# Altium footprint library Demo_BIT.PcbLib: 58 footprints (part 1 of 4)
Each footprint in its own frame and in the unit in brackets; x right, y up, seen from the top. Pads: shape width x height; smd on the part's side, far side on the other; paste and mask are expansions set on the pad; w line width, h text height; cw(c..) or ccw(c..) is an arc to the next point about the centre after c.
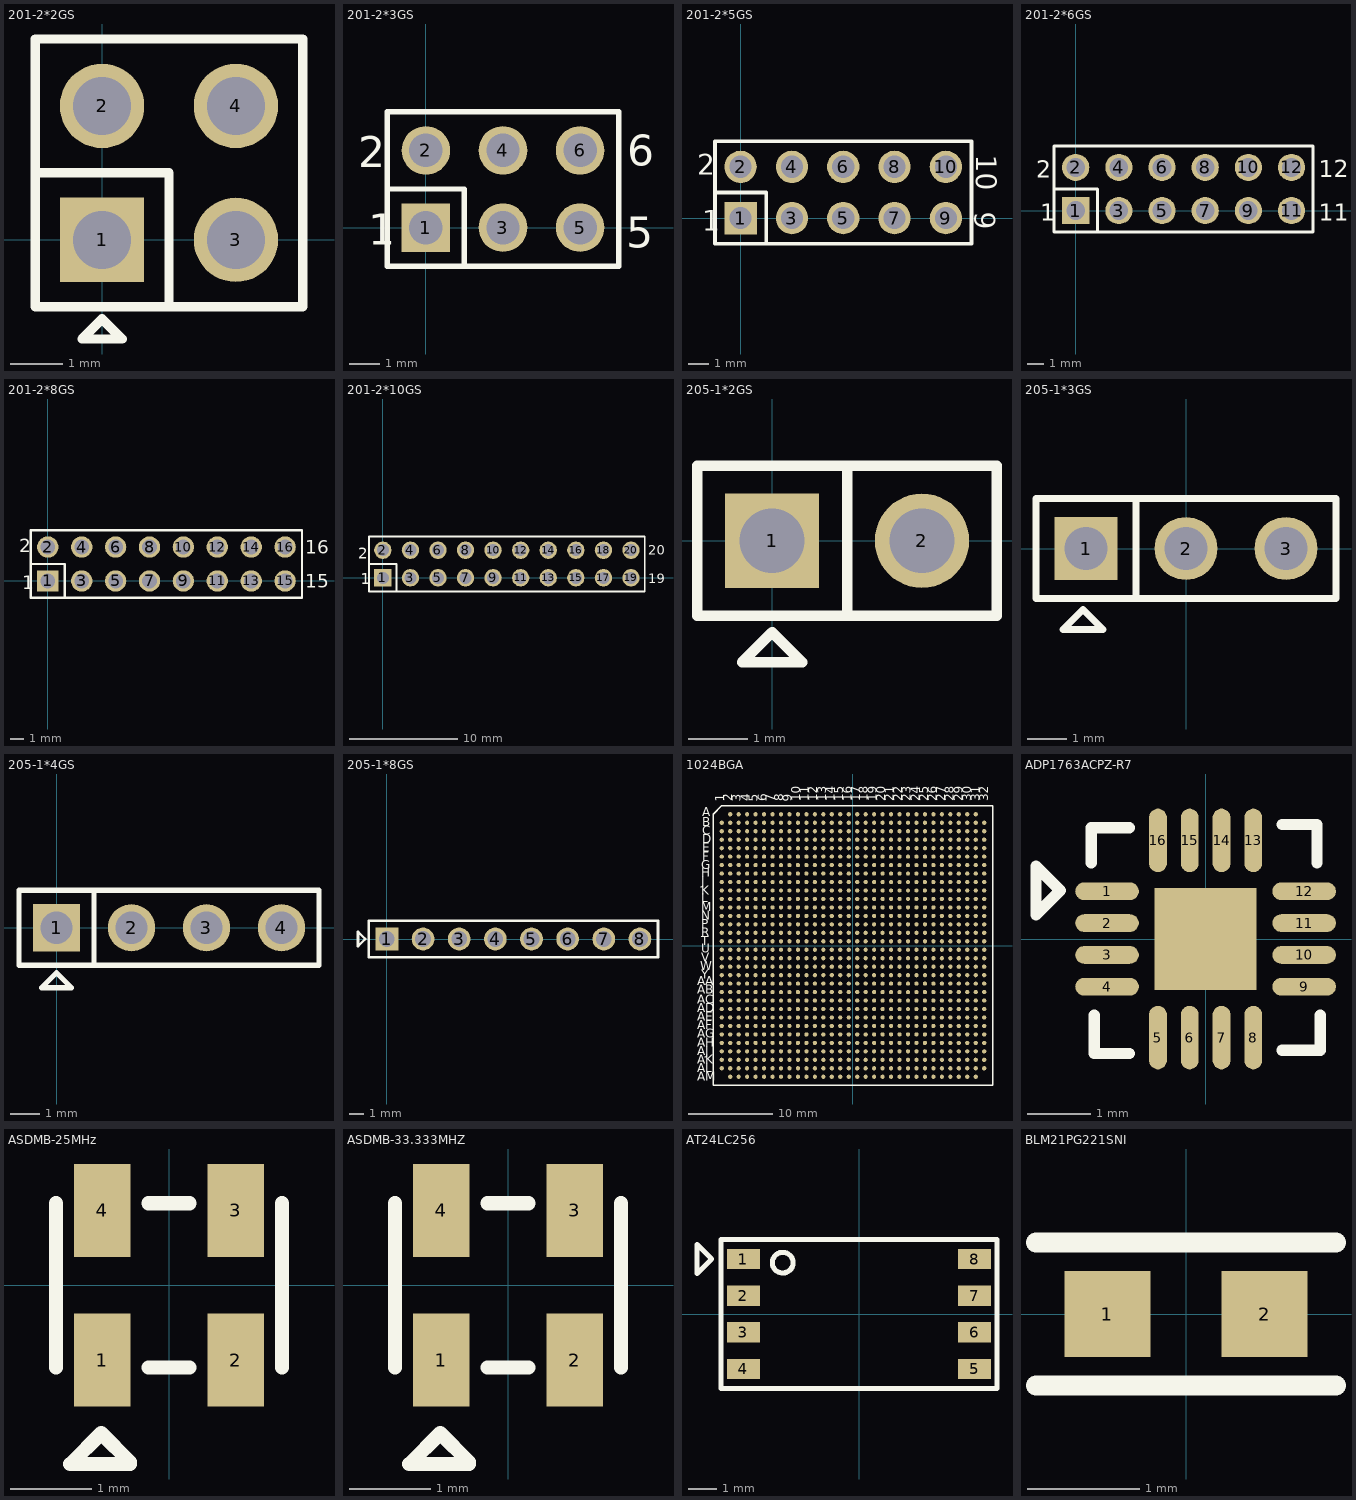
[diagram p0: the footprints below, top view; thin cyan lines are the x and y axes]

## 201-2*2GS [mm]
pads (4):
  rect 1.6x1.6 hole 1.1: 1(0,0)
  round 1.6 hole 1.1: 2(0,2.54) 3(2.54,0) 4(2.54,2.54)
Top Overlay:
  lines w0.178: -1.27,1.27 1.27,1.27 1.27,-1.27 ; -1.27,-1.27 3.81,-1.27 3.81,3.81 -1.27,3.81 -1.27,-1.27 ; -0.381,-1.88 0.381,-1.88 0,-1.499 -0.381,-1.88

## 201-2*3GS [mm]
pads (6):
  rect 1.6x1.6 hole 1.1: 1(0,0)
  round 1.6 hole 1.1: 2(0,2.54) 3(2.54,0) 4(2.54,2.54) 5(5.08,0) 6(5.08,2.54)
Top Overlay:
  lines w0.178: -1.27,1.27 1.27,1.27 1.27,-1.27 ; -1.27,-1.27 -1.27,3.81 6.35,3.81 6.35,-1.27 -1.27,-1.27
  text "6" at 6.629,2.032 h1.02
  text "5" at 6.604,-0.66 h1.02
  text "2" at -2.235,1.981 h1.02
  text "1" at -1.905,-0.559 h1.02

## 201-2*5GS [mm]
pads (10):
  rect 1.6x1.6 hole 1.1: 1(0,0)
  round 1.6 hole 1.1: 2(0,2.54) 3(2.54,0) 4(2.54,2.54) 5(5.08,0) 6(5.08,2.54) 7(7.62,0) 8(7.62,2.54) 9(10.16,0) 10(10.16,2.54)
Top Overlay:
  lines w0.178: -1.27,1.27 1.27,1.27 1.27,-1.27 ; -1.27,-1.27 11.43,-1.27 11.43,3.81 -1.27,3.81 -1.27,-1.27
  text "9" at 11.586,0.323 h1.02
  text "10" at 11.675,3.137 h1.02
  text "1" at -1.905,-0.635 h1.02
  text "2" at -2.159,2.159 h1.02

## 201-2*6GS [mm]
pads (12):
  rect 1.6x1.6 hole 1.1: 1(0,0)
  round 1.6 hole 1.1: 2(0,2.54) 3(2.54,0) 4(2.54,2.54) 5(5.08,0) 6(5.08,2.54) 7(7.62,0) 8(7.62,2.54) 9(10.16,0) 10(10.16,2.54) 11(12.7,0) 12(12.7,2.54)
Top Overlay:
  lines w0.178: -1.27,1.27 1.27,1.27 1.27,-1.27 ; -1.27,-1.27 13.97,-1.27 13.97,3.81 -1.27,3.81 -1.27,-1.27
  text "11" at 14.3,-0.584 h1.02
  text "12" at 14.3,1.956 h1.02
  text "1" at -2.083,-0.61 h1.02
  text "2" at -2.337,1.93 h1.02

## 201-2*8GS [mm]
height 4.1
pads (16):
  rect 1.6x1.6 hole 1.1: 1(0,0)
  round 1.6 hole 1.1: 2(0,2.54) 3(2.54,0) 4(2.54,2.54) 5(5.08,0) 6(5.08,2.54) 7(7.62,0) 8(7.62,2.54) 9(10.16,0) 10(10.16,2.54) 11(12.7,0) 12(12.7,2.54) 13(15.24,0) 14(15.24,2.54) 15(17.78,0) 16(17.78,2.54)
Top Overlay:
  lines w0.178: -1.27,1.27 1.27,1.27 1.27,-1.27 ; -1.27,-1.27 -1.27,3.81 19.05,3.81 19.05,-1.27 -1.27,-1.27
  text "2" at -2.159,2.159 h1.02
  text "1" at -1.905,-0.635 h1.02
  text "16" at 19.304,2.032 h1.02
  text "15" at 19.304,-0.508 h1.02

## 201-2*10GS [mm]
pads (20):
  rect 1.6x1.6 hole 1.1: 1(0,0)
  round 1.6 hole 1.1: 2(0,2.54) 3(2.54,0) 4(2.54,2.54) 5(5.08,0) 6(5.08,2.54) 7(7.62,0) 8(7.62,2.54) 9(10.16,0) 10(10.16,2.54) 11(12.7,0) 12(12.7,2.54) 13(15.24,0) 14(15.24,2.54) 15(17.78,0) 16(17.78,2.54) 17(20.32,0) 18(20.32,2.54) 19(22.86,0) 20(22.86,2.54)
Top Overlay:
  lines w0.178: -1.27,1.27 1.27,1.27 1.27,-1.27 ; -1.27,-1.27 -1.27,3.81 24.13,3.81 24.13,-1.27 -1.27,-1.27
  text "20" at 24.435,2.108 h0.89
  text "19" at 24.46,-0.483 h0.89
  text "2" at -2.286,1.753 h1.02
  text "1" at -2.032,-0.61 h1.02

## 205-1*2GS [mm]
pads (2):
  rect 1.6x1.6 hole 1.1: 1(0,0)
  round 1.6 hole 1.1: 2(2.54,0)
Top Overlay:
  lines w0.178: 1.27,-1.27 1.27,1.27 ; -1.27,-1.27 3.81,-1.27 3.81,1.27 -1.27,1.27 -1.27,-1.27 ; -0.508,-2.057 0,-1.549 0.508,-2.057 -0.508,-2.057

## 205-1*3GS [mm]
pads (3):
  rect 1.6x1.6 hole 1.1: 1(-2.54,0)
  round 1.6 hole 1.1: 2(0,0) 3(2.54,0)
Top Overlay:
  lines w0.178: -1.27,-1.27 -1.27,1.27 ; -3.81,-1.27 3.81,-1.27 3.81,1.27 -3.81,1.27 -3.81,-1.27 ; -3.124,-2.057 -2.616,-1.549 -2.108,-2.057 -3.124,-2.057

## 205-1*4GS [mm]
pads (4):
  rect 1.6x1.6 hole 1.1: 1(0,0)
  round 1.6 hole 1.1: 2(2.54,0) 3(5.08,0) 4(7.62,0)
Top Overlay:
  lines w0.178: 1.27,-1.27 1.27,1.27 ; -1.27,-1.27 -1.27,1.27 8.89,1.27 8.89,-1.27 -1.27,-1.27 ; -0.508,-2.032 0,-1.524 0.508,-2.032 -0.508,-2.032

## 205-1*8GS [mm]
pads (8):
  rect 1.6x1.6 hole 1.1: 1(0,0)
  round 1.6 hole 1.1: 2(2.54,0) 3(5.08,0) 4(7.62,0) 5(10.16,0) 6(12.7,0) 7(15.24,0) 8(17.78,0)
Top Overlay:
  lines w0.178: -2.032,-0.508 -1.524,0 -2.032,0.508 -2.032,-0.508 ; -1.27,-1.27 19.05,-1.27 19.05,1.27 -1.27,1.27 -1.27,-1.27

## 1024BGA [mm]
pads (1020):
  round 0.5 smd: A2(-14.5,15.5) A3(-13.5,15.5) A4(-12.5,15.5) A5(-11.5,15.5) A6(-10.5,15.5) A7(-9.5,15.5) A8(-8.5,15.5) A9(-7.5,15.5) A10(-6.5,15.5) A11(-5.5,15.5) A12(-4.5,15.5) A13(-3.5,15.5) A14(-2.5,15.5) A15(-1.5,15.5) A16(-0.5,15.5) A17(0.5,15.5) A18(1.5,15.5) A19(2.5,15.5) A20(3.5,15.5) A21(4.5,15.5) A22(5.5,15.5) A23(6.5,15.5) A24(7.5,15.5) A25(8.5,15.5) A26(9.5,15.5) A27(10.5,15.5) A28(11.5,15.5) A29(12.5,15.5) A30(13.5,15.5) A31(14.5,15.5) AA1(-15.5,-4.5) AA2(-14.5,-4.5) AA3(-13.5,-4.5) AA4(-12.5,-4.5) AA5(-11.5,-4.5) AA6(-10.5,-4.5) AA7(-9.5,-4.5) AA8(-8.5,-4.5) AA9(-7.5,-4.5) AA10(-6.5,-4.5) AA11(-5.5,-4.5) AA12(-4.5,-4.5) AA13(-3.5,-4.5) AA14(-2.5,-4.5) AA15(-1.5,-4.5) AA16(-0.5,-4.5) AA17(0.5,-4.5) AA18(1.5,-4.5) AA19(2.5,-4.5) AA20(3.5,-4.5) AA21(4.5,-4.5) AA22(5.5,-4.5) AA23(6.5,-4.5) AA24(7.5,-4.5) AA25(8.5,-4.5) AA26(9.5,-4.5) AA27(10.5,-4.5) AA28(11.5,-4.5) AA29(12.5,-4.5) AA30(13.5,-4.5) AA31(14.5,-4.5) AA32(15.5,-4.5) AB1(-15.5,-5.5) AB2(-14.5,-5.5) AB3(-13.5,-5.5) AB4(-12.5,-5.5) AB5(-11.5,-5.5) AB6(-10.5,-5.5) AB7(-9.5,-5.5) AB8(-8.5,-5.5) AB9(-7.5,-5.5) AB10(-6.5,-5.5) AB11(-5.5,-5.5) AB12(-4.5,-5.5) AB13(-3.5,-5.5) AB14(-2.5,-5.5) AB15(-1.5,-5.5) AB16(-0.5,-5.5) AB17(0.5,-5.5) AB18(1.5,-5.5) AB19(2.5,-5.5) AB20(3.5,-5.5) AB21(4.5,-5.5) AB22(5.5,-5.5) AB23(6.5,-5.5) AB24(7.5,-5.5) AB25(8.5,-5.5) AB26(9.5,-5.5) AB27(10.5,-5.5) AB28(11.5,-5.5) AB29(12.5,-5.5) AB30(13.5,-5.5) AB31(14.5,-5.5) AB32(15.5,-5.5) AC1(-15.5,-6.5) AC2(-14.5,-6.5) AC3(-13.5,-6.5) AC4(-12.5,-6.5) AC5(-11.5,-6.5) AC6(-10.5,-6.5) AC7(-9.5,-6.5) AC8(-8.5,-6.5) AC9(-7.5,-6.5) AC10(-6.5,-6.5) AC11(-5.5,-6.5) AC12(-4.5,-6.5) AC13(-3.5,-6.5) AC14(-2.5,-6.5) AC15(-1.5,-6.5) AC16(-0.5,-6.5) AC17(0.5,-6.5) AC18(1.5,-6.5) AC19(2.5,-6.5) AC20(3.5,-6.5) AC21(4.5,-6.5) AC22(5.5,-6.5) AC23(6.5,-6.5) AC24(7.5,-6.5) AC25(8.5,-6.5) AC26(9.5,-6.5) AC27(10.5,-6.5) AC28(11.5,-6.5) AC29(12.5,-6.5) AC30(13.5,-6.5) AC31(14.5,-6.5) AC32(15.5,-6.5) AD1(-15.5,-7.5) AD2(-14.5,-7.5) AD3(-13.5,-7.5) AD4(-12.5,-7.5) AD5(-11.5,-7.5) AD6(-10.5,-7.5) AD7(-9.5,-7.5) AD8(-8.5,-7.5) AD9(-7.5,-7.5) AD10(-6.5,-7.5) AD11(-5.5,-7.5) AD12(-4.5,-7.5) AD13(-3.5,-7.5) AD14(-2.5,-7.5) AD15(-1.5,-7.5) AD16(-0.5,-7.5) AD17(0.5,-7.5) AD18(1.5,-7.5) AD19(2.5,-7.5) AD20(3.5,-7.5) AD21(4.5,-7.5) AD22(5.5,-7.5) AD23(6.5,-7.5) AD24(7.5,-7.5) AD25(8.5,-7.5) AD26(9.5,-7.5) AD27(10.5,-7.5) AD28(11.5,-7.5) AD29(12.5,-7.5) AD30(13.5,-7.5) AD31(14.5,-7.5) AD32(15.5,-7.5) AE1(-15.5,-8.5) AE2(-14.5,-8.5) AE3(-13.5,-8.5) AE4(-12.5,-8.5) AE5(-11.5,-8.5) AE6(-10.5,-8.5) AE7(-9.5,-8.5) AE8(-8.5,-8.5) AE9(-7.5,-8.5) AE10(-6.5,-8.5) AE11(-5.5,-8.5) AE12(-4.5,-8.5) AE13(-3.5,-8.5) AE14(-2.5,-8.5) AE15(-1.5,-8.5) AE16(-0.5,-8.5) AE17(0.5,-8.5) AE18(1.5,-8.5) AE19(2.5,-8.5) AE20(3.5,-8.5) AE21(4.5,-8.5) AE22(5.5,-8.5) AE23(6.5,-8.5) AE24(7.5,-8.5) AE25(8.5,-8.5) AE26(9.5,-8.5) AE27(10.5,-8.5) AE28(11.5,-8.5) AE29(12.5,-8.5) AE30(13.5,-8.5) AE31(14.5,-8.5) AE32(15.5,-8.5) AF1(-15.5,-9.5) AF2(-14.5,-9.5) AF3(-13.5,-9.5) AF4(-12.5,-9.5) AF5(-11.5,-9.5) AF6(-10.5,-9.5) AF7(-9.5,-9.5) AF8(-8.5,-9.5) AF9(-7.5,-9.5) AF10(-6.5,-9.5) AF11(-5.5,-9.5) AF12(-4.5,-9.5) AF13(-3.5,-9.5) AF14(-2.5,-9.5) AF15(-1.5,-9.5) AF16(-0.5,-9.5) AF17(0.5,-9.5) AF18(1.5,-9.5) AF19(2.5,-9.5) AF20(3.5,-9.5) AF21(4.5,-9.5) AF22(5.5,-9.5) AF23(6.5,-9.5) AF24(7.5,-9.5) AF25(8.5,-9.5) AF26(9.5,-9.5) AF27(10.5,-9.5) AF28(11.5,-9.5) AF29(12.5,-9.5) AF30(13.5,-9.5) AF31(14.5,-9.5) AF32(15.5,-9.5) AG1(-15.5,-10.5) AG2(-14.5,-10.5) AG3(-13.5,-10.5) AG4(-12.5,-10.5) AG5(-11.5,-10.5) AG6(-10.5,-10.5) AG7(-9.5,-10.5) AG8(-8.5,-10.5) AG9(-7.5,-10.5) AG10(-6.5,-10.5) AG11(-5.5,-10.5) AG12(-4.5,-10.5) AG13(-3.5,-10.5) AG14(-2.5,-10.5) AG15(-1.5,-10.5) AG16(-0.5,-10.5) AG17(0.5,-10.5) AG18(1.5,-10.5) AG19(2.5,-10.5) AG20(3.5,-10.5) AG21(4.5,-10.5) AG22(5.5,-10.5) AG23(6.5,-10.5) AG24(7.5,-10.5) AG25(8.5,-10.5) AG26(9.5,-10.5) AG27(10.5,-10.5) AG28(11.5,-10.5) AG29(12.5,-10.5) AG30(13.5,-10.5) AG31(14.5,-10.5) AG32(15.5,-10.5) AH1(-15.5,-11.5) AH2(-14.5,-11.5) AH3(-13.5,-11.5) AH4(-12.5,-11.5) AH5(-11.5,-11.5) AH6(-10.5,-11.5) AH7(-9.5,-11.5) AH8(-8.5,-11.5) AH9(-7.5,-11.5) AH10(-6.5,-11.5) AH11(-5.5,-11.5) AH12(-4.5,-11.5) AH13(-3.5,-11.5) AH14(-2.5,-11.5) AH15(-1.5,-11.5) AH16(-0.5,-11.5) AH17(0.5,-11.5) AH18(1.5,-11.5) AH19(2.5,-11.5) AH20(3.5,-11.5) AH21(4.5,-11.5) AH22(5.5,-11.5) AH23(6.5,-11.5) AH24(7.5,-11.5) AH25(8.5,-11.5) AH26(9.5,-11.5) AH27(10.5,-11.5) AH28(11.5,-11.5) AH29(12.5,-11.5) AH30(13.5,-11.5) AH31(14.5,-11.5) AH32(15.5,-11.5) AJ1(-15.5,-12.5) AJ2(-14.5,-12.5) AJ3(-13.5,-12.5) AJ4(-12.5,-12.5) AJ5(-11.5,-12.5) AJ6(-10.5,-12.5) AJ7(-9.5,-12.5) AJ8(-8.5,-12.5) AJ9(-7.5,-12.5) AJ10(-6.5,-12.5) AJ11(-5.5,-12.5) AJ12(-4.5,-12.5) AJ13(-3.5,-12.5) AJ14(-2.5,-12.5) AJ15(-1.5,-12.5) AJ16(-0.5,-12.5) AJ17(0.5,-12.5) AJ18(1.5,-12.5) AJ19(2.5,-12.5) AJ20(3.5,-12.5) AJ21(4.5,-12.5) AJ22(5.5,-12.5) AJ23(6.5,-12.5) AJ24(7.5,-12.5) AJ25(8.5,-12.5) AJ26(9.5,-12.5) AJ27(10.5,-12.5) AJ28(11.5,-12.5) AJ29(12.5,-12.5) AJ30(13.5,-12.5) AJ31(14.5,-12.5) AJ32(15.5,-12.5) AK1(-15.5,-13.5) AK2(-14.5,-13.5) AK3(-13.5,-13.5) AK4(-12.5,-13.5) AK5(-11.5,-13.5) AK6(-10.5,-13.5) AK7(-9.5,-13.5) AK8(-8.5,-13.5) AK9(-7.5,-13.5) AK10(-6.5,-13.5) AK11(-5.5,-13.5) AK12(-4.5,-13.5) AK13(-3.5,-13.5) AK14(-2.5,-13.5) AK15(-1.5,-13.5) AK16(-0.5,-13.5) AK17(0.5,-13.5) AK18(1.5,-13.5) AK19(2.5,-13.5) AK20(3.5,-13.5) AK21(4.5,-13.5) AK22(5.5,-13.5) AK23(6.5,-13.5) AK24(7.5,-13.5) AK25(8.5,-13.5) AK26(9.5,-13.5) AK27(10.5,-13.5) AK28(11.5,-13.5) AK29(12.5,-13.5) AK30(13.5,-13.5) AK31(14.5,-13.5) AK32(15.5,-13.5) AL1(-15.5,-14.5) AL2(-14.5,-14.5) AL3(-13.5,-14.5) AL4(-12.5,-14.5) AL5(-11.5,-14.5) AL6(-10.5,-14.5) AL7(-9.5,-14.5) AL8(-8.5,-14.5) AL9(-7.5,-14.5) AL10(-6.5,-14.5) AL11(-5.5,-14.5) AL12(-4.5,-14.5) AL13(-3.5,-14.5) AL14(-2.5,-14.5) AL15(-1.5,-14.5) AL16(-0.5,-14.5) AL17(0.5,-14.5) AL18(1.5,-14.5) AL19(2.5,-14.5) AL20(3.5,-14.5) AL21(4.5,-14.5) AL22(5.5,-14.5) AL23(6.5,-14.5) AL24(7.5,-14.5) AL25(8.5,-14.5) AL26(9.5,-14.5) AL27(10.5,-14.5) AL28(11.5,-14.5) AL29(12.5,-14.5) AL30(13.5,-14.5) AL31(14.5,-14.5) AL32(15.5,-14.5) AM2(-14.5,-15.5) AM3(-13.5,-15.5) AM4(-12.5,-15.5) AM5(-11.5,-15.5) AM6(-10.5,-15.5) AM7(-9.5,-15.5) AM8(-8.5,-15.5) AM9(-7.5,-15.5) AM10(-6.5,-15.5) AM11(-5.5,-15.5) AM12(-4.5,-15.5) AM13(-3.5,-15.5) AM14(-2.5,-15.5) AM15(-1.5,-15.5) AM16(-0.5,-15.5) AM17(0.5,-15.5) AM18(1.5,-15.5) AM19(2.5,-15.5) AM20(3.5,-15.5) AM21(4.5,-15.5) AM22(5.5,-15.5) AM23(6.5,-15.5) AM24(7.5,-15.5) AM25(8.5,-15.5) AM26(9.5,-15.5) AM27(10.5,-15.5) AM28(11.5,-15.5) AM29(12.5,-15.5) AM30(13.5,-15.5) AM31(14.5,-15.5) B1(-15.5,14.5) B2(-14.5,14.5) B3(-13.5,14.5) B4(-12.5,14.5) B5(-11.5,14.5) B6(-10.5,14.5) B7(-9.5,14.5) B8(-8.5,14.5) B9(-7.5,14.5) B10(-6.5,14.5) B11(-5.5,14.5) B12(-4.5,14.5) B13(-3.5,14.5) B14(-2.5,14.5) B15(-1.5,14.5) B16(-0.5,14.5) B17(0.5,14.5) B18(1.5,14.5) B19(2.5,14.5) B20(3.5,14.5) B21(4.5,14.5) B22(5.5,14.5) B23(6.5,14.5) B24(7.5,14.5) B25(8.5,14.5) B26(9.5,14.5) B27(10.5,14.5) B28(11.5,14.5) B29(12.5,14.5) B30(13.5,14.5) B31(14.5,14.5) B32(15.5,14.5) C1(-15.5,13.5) C2(-14.5,13.5) C3(-13.5,13.5) C4(-12.5,13.5) C5(-11.5,13.5) C6(-10.5,13.5) C7(-9.5,13.5) C8(-8.5,13.5) C9(-7.5,13.5) C10(-6.5,13.5) C11(-5.5,13.5) C12(-4.5,13.5) C13(-3.5,13.5) C14(-2.5,13.5) C15(-1.5,13.5) C16(-0.5,13.5) C17(0.5,13.5) C18(1.5,13.5) C19(2.5,13.5) C20(3.5,13.5) C21(4.5,13.5) C22(5.5,13.5) C23(6.5,13.5) C24(7.5,13.5) C25(8.5,13.5) C26(9.5,13.5) C27(10.5,13.5) C28(11.5,13.5) C29(12.5,13.5) C30(13.5,13.5) C31(14.5,13.5) C32(15.5,13.5) D1(-15.5,12.5) D2(-14.5,12.5) D3(-13.5,12.5) D4(-12.5,12.5) D5(-11.5,12.5) D6(-10.5,12.5) D7(-9.5,12.5) D8(-8.5,12.5) D9(-7.5,12.5) D10(-6.5,12.5) D11(-5.5,12.5) D12(-4.5,12.5) D13(-3.5,12.5) D14(-2.5,12.5) D15(-1.5,12.5) D16(-0.5,12.5) D17(0.5,12.5) D18(1.5,12.5) D19(2.5,12.5) D20(3.5,12.5) D21(4.5,12.5) D22(5.5,12.5) D23(6.5,12.5) D24(7.5,12.5) D25(8.5,12.5) D26(9.5,12.5) D27(10.5,12.5) D28(11.5,12.5) D29(12.5,12.5) D30(13.5,12.5) D31(14.5,12.5) D32(15.5,12.5) E1(-15.5,11.5) E2(-14.5,11.5) E3(-13.5,11.5) E4(-12.5,11.5) E5(-11.5,11.5) E6(-10.5,11.5) E7(-9.5,11.5) E8(-8.5,11.5) E9(-7.5,11.5) E10(-6.5,11.5) E11(-5.5,11.5) E12(-4.5,11.5) E13(-3.5,11.5) E14(-2.5,11.5) E15(-1.5,11.5) E16(-0.5,11.5) E17(0.5,11.5) E18(1.5,11.5) E19(2.5,11.5) E20(3.5,11.5) E21(4.5,11.5) E22(5.5,11.5) E23(6.5,11.5) E24(7.5,11.5) E25(8.5,11.5) E26(9.5,11.5) E27(10.5,11.5) E28(11.5,11.5) E29(12.5,11.5) E30(13.5,11.5) E31(14.5,11.5) E32(15.5,11.5) F1(-15.5,10.5) F2(-14.5,10.5) F3(-13.5,10.5) F4(-12.5,10.5) F5(-11.5,10.5) F6(-10.5,10.5) F7(-9.5,10.5) F8(-8.5,10.5) F9(-7.5,10.5) F10(-6.5,10.5) F11(-5.5,10.5) F12(-4.5,10.5) F13(-3.5,10.5) F14(-2.5,10.5) F15(-1.5,10.5) F16(-0.5,10.5) F17(0.5,10.5) F18(1.5,10.5) F19(2.5,10.5) F20(3.5,10.5) F21(4.5,10.5) F22(5.5,10.5) F23(6.5,10.5) F24(7.5,10.5) F25(8.5,10.5) F26(9.5,10.5) F27(10.5,10.5) F28(11.5,10.5) F29(12.5,10.5) F30(13.5,10.5) F31(14.5,10.5) F32(15.5,10.5) G1(-15.5,9.5) G2(-14.5,9.5) G3(-13.5,9.5) G4(-12.5,9.5) G5(-11.5,9.5) G6(-10.5,9.5) G7(-9.5,9.5) G8(-8.5,9.5) G9(-7.5,9.5) G10(-6.5,9.5) G11(-5.5,9.5) G12(-4.5,9.5) G13(-3.5,9.5) G14(-2.5,9.5) G15(-1.5,9.5) G16(-0.5,9.5) G17(0.5,9.5) G18(1.5,9.5) G19(2.5,9.5) G20(3.5,9.5) G21(4.5,9.5) G22(5.5,9.5) G23(6.5,9.5) G24(7.5,9.5) G25(8.5,9.5) G26(9.5,9.5) G27(10.5,9.5) G28(11.5,9.5) G29(12.5,9.5) G30(13.5,9.5) G31(14.5,9.5) G32(15.5,9.5) H1(-15.5,8.5) H2(-14.5,8.5) H3(-13.5,8.5) H4(-12.5,8.5) H5(-11.5,8.5) H6(-10.5,8.5) H7(-9.5,8.5) H8(-8.5,8.5) H9(-7.5,8.5) H10(-6.5,8.5) H11(-5.5,8.5) H12(-4.5,8.5) H13(-3.5,8.5) H14(-2.5,8.5) H15(-1.5,8.5) H16(-0.5,8.5) H17(0.5,8.5) H18(1.5,8.5) H19(2.5,8.5) H20(3.5,8.5) H21(4.5,8.5) H22(5.5,8.5) H23(6.5,8.5) H24(7.5,8.5) H25(8.5,8.5) H26(9.5,8.5) H27(10.5,8.5) H28(11.5,8.5) H29(12.5,8.5) H30(13.5,8.5) H31(14.5,8.5) H32(15.5,8.5) J1(-15.5,7.5) J2(-14.5,7.5) J3(-13.5,7.5) J4(-12.5,7.5) J5(-11.5,7.5) J6(-10.5,7.5) J7(-9.5,7.5) J8(-8.5,7.5) J9(-7.5,7.5) J10(-6.5,7.5) J11(-5.5,7.5) J12(-4.5,7.5) J13(-3.5,7.5) J14(-2.5,7.5) J15(-1.5,7.5) J16(-0.5,7.5) J17(0.5,7.5) J18(1.5,7.5) J19(2.5,7.5) J20(3.5,7.5) J21(4.5,7.5) J22(5.5,7.5) J23(6.5,7.5) J24(7.5,7.5) J25(8.5,7.5) J26(9.5,7.5) J27(10.5,7.5) J28(11.5,7.5) J29(12.5,7.5) J30(13.5,7.5) J31(14.5,7.5) J32(15.5,7.5) K1(-15.5,6.5) K2(-14.5,6.5) K3(-13.5,6.5) K4(-12.5,6.5) K5(-11.5,6.5) K6(-10.5,6.5) K7(-9.5,6.5) K8(-8.5,6.5) K9(-7.5,6.5) K10(-6.5,6.5) K11(-5.5,6.5) K12(-4.5,6.5) K13(-3.5,6.5) K14(-2.5,6.5) K15(-1.5,6.5) K16(-0.5,6.5) K17(0.5,6.5) K18(1.5,6.5) K19(2.5,6.5) K20(3.5,6.5) K21(4.5,6.5) K22(5.5,6.5) K23(6.5,6.5) K24(7.5,6.5) K25(8.5,6.5) K26(9.5,6.5) K27(10.5,6.5) K28(11.5,6.5) K29(12.5,6.5) K30(13.5,6.5) K31(14.5,6.5) K32(15.5,6.5) L1(-15.5,5.5) L2(-14.5,5.5) L3(-13.5,5.5) L4(-12.5,5.5) L5(-11.5,5.5) L6(-10.5,5.5) L7(-9.5,5.5) L8(-8.5,5.5) L9(-7.5,5.5) L10(-6.5,5.5) L11(-5.5,5.5) L12(-4.5,5.5) L13(-3.5,5.5) L14(-2.5,5.5) L15(-1.5,5.5) L16(-0.5,5.5) L17(0.5,5.5) L18(1.5,5.5) L19(2.5,5.5) L20(3.5,5.5) L21(4.5,5.5) L22(5.5,5.5) L23(6.5,5.5) L24(7.5,5.5) L25(8.5,5.5) L26(9.5,5.5) L27(10.5,5.5) L28(11.5,5.5) L29(12.5,5.5) L30(13.5,5.5) L31(14.5,5.5) L32(15.5,5.5) M1(-15.5,4.5) M2(-14.5,4.5) M3(-13.5,4.5) M4(-12.5,4.5) M5(-11.5,4.5) M6(-10.5,4.5) M7(-9.5,4.5) M8(-8.5,4.5) M9(-7.5,4.5) M10(-6.5,4.5) M11(-5.5,4.5) M12(-4.5,4.5) M13(-3.5,4.5) M14(-2.5,4.5) M15(-1.5,4.5) M16(-0.5,4.5) M17(0.5,4.5) M18(1.5,4.5) M19(2.5,4.5) M20(3.5,4.5) M21(4.5,4.5) M22(5.5,4.5) M23(6.5,4.5) M24(7.5,4.5) M25(8.5,4.5) M26(9.5,4.5) M27(10.5,4.5) M28(11.5,4.5) M29(12.5,4.5) M30(13.5,4.5) M31(14.5,4.5) M32(15.5,4.5) N1(-15.5,3.5) N2(-14.5,3.5) N3(-13.5,3.5) N4(-12.5,3.5) N5(-11.5,3.5) N6(-10.5,3.5) N7(-9.5,3.5) N8(-8.5,3.5) N9(-7.5,3.5) N10(-6.5,3.5) N11(-5.5,3.5) N12(-4.5,3.5) N13(-3.5,3.5) N14(-2.5,3.5) N15(-1.5,3.5) N16(-0.5,3.5) N17(0.5,3.5) N18(1.5,3.5) N19(2.5,3.5) N20(3.5,3.5) N21(4.5,3.5) N22(5.5,3.5) N23(6.5,3.5) N24(7.5,3.5) N25(8.5,3.5) N26(9.5,3.5) N27(10.5,3.5) N28(11.5,3.5) N29(12.5,3.5) N30(13.5,3.5) N31(14.5,3.5) N32(15.5,3.5) P1(-15.5,2.5) P2(-14.5,2.5) P3(-13.5,2.5) P4(-12.5,2.5) P5(-11.5,2.5) P6(-10.5,2.5) P7(-9.5,2.5) P8(-8.5,2.5) P9(-7.5,2.5) P10(-6.5,2.5) P11(-5.5,2.5) P12(-4.5,2.5) P13(-3.5,2.5) P14(-2.5,2.5) P15(-1.5,2.5) P16(-0.5,2.5) P17(0.5,2.5) P18(1.5,2.5) P19(2.5,2.5) P20(3.5,2.5) P21(4.5,2.5) P22(5.5,2.5) P23(6.5,2.5) P24(7.5,2.5) P25(8.5,2.5) P26(9.5,2.5) P27(10.5,2.5) P28(11.5,2.5) P29(12.5,2.5) P30(13.5,2.5) P31(14.5,2.5) P32(15.5,2.5) R1(-15.5,1.5) R2(-14.5,1.5) R3(-13.5,1.5) R4(-12.5,1.5) R5(-11.5,1.5) R6(-10.5,1.5) R7(-9.5,1.5) R8(-8.5,1.5) R9(-7.5,1.5) R10(-6.5,1.5) R11(-5.5,1.5) R12(-4.5,1.5) R13(-3.5,1.5) R14(-2.5,1.5) R15(-1.5,1.5) R16(-0.5,1.5) R17(0.5,1.5) R18(1.5,1.5) R19(2.5,1.5) R20(3.5,1.5) R21(4.5,1.5) R22(5.5,1.5) R23(6.5,1.5) R24(7.5,1.5) R25(8.5,1.5) R26(9.5,1.5) R27(10.5,1.5) R28(11.5,1.5) R29(12.5,1.5) R30(13.5,1.5) R31(14.5,1.5) R32(15.5,1.5) T1(-15.5,0.5) T2(-14.5,0.5) T3(-13.5,0.5) T4(-12.5,0.5) T5(-11.5,0.5) T6(-10.5,0.5) T7(-9.5,0.5) T8(-8.5,0.5) T9(-7.5,0.5) T10(-6.5,0.5) T11(-5.5,0.5) T12(-4.5,0.5) T13(-3.5,0.5) T14(-2.5,0.5) T15(-1.5,0.5) T16(-0.5,0.5) T17(0.5,0.5) T18(1.5,0.5) T19(2.5,0.5) T20(3.5,0.5) T21(4.5,0.5) T22(5.5,0.5) T23(6.5,0.5) T24(7.5,0.5) T25(8.5,0.5) T26(9.5,0.5) T27(10.5,0.5) T28(11.5,0.5) T29(12.5,0.5) T30(13.5,0.5) T31(14.5,0.5) T32(15.5,0.5) U1(-15.5,-0.5) U2(-14.5,-0.5) U3(-13.5,-0.5) U4(-12.5,-0.5) U5(-11.5,-0.5) U6(-10.5,-0.5) U7(-9.5,-0.5) U8(-8.5,-0.5) U9(-7.5,-0.5) U10(-6.5,-0.5) U11(-5.5,-0.5) U12(-4.5,-0.5) U13(-3.5,-0.5) U14(-2.5,-0.5) U15(-1.5,-0.5) U16(-0.5,-0.5) U17(0.5,-0.5) U18(1.5,-0.5) U19(2.5,-0.5) U20(3.5,-0.5) U21(4.5,-0.5) U22(5.5,-0.5) U23(6.5,-0.5) U24(7.5,-0.5) U25(8.5,-0.5) U26(9.5,-0.5) U27(10.5,-0.5) U28(11.5,-0.5) U29(12.5,-0.5) U30(13.5,-0.5) U31(14.5,-0.5) U32(15.5,-0.5) V1(-15.5,-1.5) V2(-14.5,-1.5) V3(-13.5,-1.5) V4(-12.5,-1.5) V5(-11.5,-1.5) V6(-10.5,-1.5) V7(-9.5,-1.5) V8(-8.5,-1.5) V9(-7.5,-1.5) V10(-6.5,-1.5) V11(-5.5,-1.5) V12(-4.5,-1.5) V13(-3.5,-1.5) V14(-2.5,-1.5) V15(-1.5,-1.5) V16(-0.5,-1.5) V17(0.5,-1.5) V18(1.5,-1.5) V19(2.5,-1.5) V20(3.5,-1.5) V21(4.5,-1.5) V22(5.5,-1.5) V23(6.5,-1.5) V24(7.5,-1.5) V25(8.5,-1.5) V26(9.5,-1.5) V27(10.5,-1.5) V28(11.5,-1.5) V29(12.5,-1.5) V30(13.5,-1.5) V31(14.5,-1.5) V32(15.5,-1.5) W1(-15.5,-2.5) W2(-14.5,-2.5) W3(-13.5,-2.5) W4(-12.5,-2.5) W5(-11.5,-2.5) W6(-10.5,-2.5) W7(-9.5,-2.5) W8(-8.5,-2.5) W9(-7.5,-2.5) W10(-6.5,-2.5) W11(-5.5,-2.5) W12(-4.5,-2.5) W13(-3.5,-2.5) W14(-2.5,-2.5) W15(-1.5,-2.5) W16(-0.5,-2.5) W17(0.5,-2.5) W18(1.5,-2.5) W19(2.5,-2.5) W20(3.5,-2.5) W21(4.5,-2.5) W22(5.5,-2.5) W23(6.5,-2.5) W24(7.5,-2.5) W25(8.5,-2.5) W26(9.5,-2.5) W27(10.5,-2.5) W28(11.5,-2.5) W29(12.5,-2.5) W30(13.5,-2.5) W31(14.5,-2.5) W32(15.5,-2.5) Y1(-15.5,-3.5) Y2(-14.5,-3.5) Y3(-13.5,-3.5) Y4(-12.5,-3.5) Y5(-11.5,-3.5) Y6(-10.5,-3.5) Y7(-9.5,-3.5) Y8(-8.5,-3.5) Y9(-7.5,-3.5) Y10(-6.5,-3.5) Y11(-5.5,-3.5) Y12(-4.5,-3.5) Y13(-3.5,-3.5) Y14(-2.5,-3.5) Y15(-1.5,-3.5) Y16(-0.5,-3.5) Y17(0.5,-3.5) Y18(1.5,-3.5) Y19(2.5,-3.5) Y20(3.5,-3.5) Y21(4.5,-3.5) Y22(5.5,-3.5) Y23(6.5,-3.5) Y24(7.5,-3.5) Y25(8.5,-3.5) Y26(9.5,-3.5) Y27(10.5,-3.5) Y28(11.5,-3.5) Y29(12.5,-3.5) Y30(13.5,-3.5) Y31(14.5,-3.5) Y32(15.5,-3.5)
Top Overlay:
  lines w0.178: -16.5,-16.5 16.5,-16.5 16.5,16.5 -15.516,16.5 -16.5,15.516 -16.5,-16.5
  text "31" at 14.98,17.024 h1.02
  text "32" at 15.996,17.024 h1.02
  text "29" at 12.948,17.024 h1.02
  text "30" at 13.964,17.024 h1.02
  text "27" at 10.916,17.024 h1.02
  text "28" at 11.932,17.024 h1.02
  text "16" at -0.133,17.024 h1.02
  text "17" at 0.883,17.024 h1.02
  text "26" at 9.9,17.024 h1.02
  text "24" at 7.868,17.024 h1.02
  text "25" at 8.884,17.024 h1.02
  text "22" at 5.836,17.024 h1.02
  text "23" at 6.852,17.024 h1.02
  text "20" at 3.804,17.024 h1.02
  text "21" at 4.82,17.024 h1.02
  text "18" at 1.772,17.024 h1.02
  text "19" at 2.788,17.024 h1.02
  text "4" at -12.198,17.024 h1.02
  text "3" at -13.231,17.009 h1.02
  text "6" at -10.166,17.024 h1.02
  text "5" at -11.231,17.009 h1.02
  text "8" at -8.261,17.024 h1.02
  text "7" at -9.231,17.009 h1.02
  text "10" at -6.229,17.024 h1.02
  text "12" at -4.197,17.024 h1.02
  text "11" at -5.213,17.024 h1.02
  text "14" at -2.165,17.024 h1.02
  text "13" at -3.181,17.024 h1.02
  text "15" at -1.149,17.024 h1.02
  text "2" at -14.23,17.024 h1.02
  text "1" at -15.231,17.009 h1.02
  text "R" at -17.913,1.022 h1.02
  text "B" at -17.786,14.103 h1.02
  text "A" at -17.786,15.246 h1.02
  text "C" at -17.786,13.087 h1.02
  text "D" at -17.786,12.071 h1.02
  text "E" at -17.786,11.055 h1.02
  text "F" at -17.786,10.039 h1.02
  text "G" at -17.913,9.023 h1.02
  text "H" at -17.913,8.134 h1.02
  text "J" at -17.913,7.118 h1.02
  text "K" at -17.913,5.975 h1.02
  text "L" at -17.913,5.086 h1.02
  text "M" at -17.913,4.07 h1.02
  text "P" at -17.913,2.038 h1.02
  text "U" at -17.913,-0.883 h1.02
  text "T" at -17.913,0.006 h1.02
  text "V" at -17.913,-1.899 h1.02
  text "W" at -18.04,-2.915 h1.02
  text "Y" at -17.913,-3.931 h1.02
  text "AB" at -18.421,-5.709 h1.02
  text "AC" at -18.421,-6.852 h1.02
  text "AD" at -18.421,-7.868 h1.02
  text "AE" at -18.421,-8.884 h1.02
  text "AF" at -18.421,-9.9 h1.02
  text "AH" at -18.421,-11.932 h1.02
  text "AG" at -18.421,-10.916 h1.02
  text "AK" at -18.421,-13.964 h1.02
  text "AJ" at -18.421,-12.948 h1.02
  text "AM" at -18.421,-15.996 h1.02
  text "AL" at -18.421,-14.98 h1.02
  text "N" at -17.913,3.054 h1.02
  text "AA" at -18.421,-4.693 h1.02
  text "9" at -7.231,17.009 h1.02

## ADP1763ACPZ-R7 [mm]
pads (17):
  oval 1x0.28 smd: 1(-1.55,0.75) 2(-1.55,0.25) 3(-1.55,-0.25) 4(-1.55,-0.75) 9(1.55,-0.75) 10(1.55,-0.25) 11(1.55,0.25) 12(1.55,0.75)
  oval 0.28x1 smd: 5(-0.75,-1.55) 6(-0.25,-1.55) 7(0.25,-1.55) 8(0.75,-1.55) 13(0.75,1.55) 14(0.25,1.55) 15(-0.25,1.55) 16(-0.75,1.55)
  rect 1.6x1.6 smd: ""(0,0)
Top Overlay:
  lines w0.178: -1.8,1.2 -1.8,1.75 -1.2,1.75 ; -1.75,-1.2 -1.75,-1.8 -1.2,-1.8 ; 1.2,-1.75 1.8,-1.75 1.8,-1.2 ; 1.2,1.8 1.75,1.8 1.75,1.2 ; -2.667,0.381 -2.286,0.762 -2.667,1.143 -2.667,0.381

## ASDMB-25MHz [mm]
height 1.1
pads (4):
  rect 0.7x1.15 smd: 1(-0.825,-0.925) 2(0.825,-0.925) 3(0.825,0.925) 4(-0.825,0.925)
Top Overlay:
  lines w0.178: -1.397,-1.016 -1.397,1.016 ; -0.254,-1.016 0.254,-1.016 ; -0.254,1.016 0.254,1.016 ; 1.397,-1.016 1.397,1.016 ; -1.219,-2.21 -0.483,-2.21 -0.483,-2.184 -0.838,-1.829 -1.219,-2.21

## ASDMB-33.333MHZ [mm]
height 1.1
pads (4):
  rect 0.7x1.15 smd: 1(-0.825,-0.925) 2(0.825,-0.925) 3(0.825,0.925) 4(-0.825,0.925)
Top Overlay:
  lines w0.178: -1.397,-1.016 -1.397,1.016 ; -0.254,-1.016 0.254,-1.016 ; -0.254,1.016 0.254,1.016 ; 1.397,-1.016 1.397,1.016 ; -1.219,-2.21 -0.483,-2.21 -0.483,-2.184 -0.838,-1.829 -1.219,-2.21

## AT24LC256 [mm]
height 1.1
pads (8):
  rect 1.14x0.7 smd: 1(-4.005,1.905) 2(-4.005,0.635) 3(-4.005,-0.635) 4(-4.005,-1.905) 5(4.005,-1.905) 6(4.005,-0.635) 7(4.005,0.635) 8(4.005,1.905)
Top Overlay:
  circle w0.178: c-2.645,1.778 r0.359
  lines w0.178: -5.613,1.397 -5.105,1.905 -5.613,2.413 -5.613,1.397 ; -4.78,-2.575 4.78,-2.575 4.78,2.575 -4.78,2.575 -4.78,-2.575

## BLM21PG221SNI [mil]
pads (2):
  rect 30x30 smd: 1(-27.5,0) 2(27.5,0)
Top Overlay:
  lines w7: -52.5,-25 52.5,-25 ; -52.5,25 52.5,25